# EAGLE library part PINHD-2X3-SMD (library custom-pinhead)
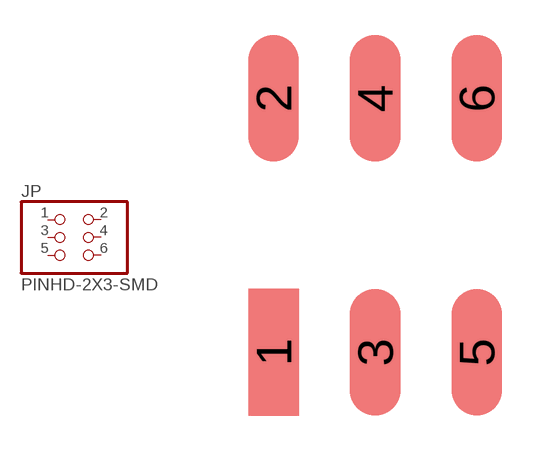
[diagram p44: symbol with the pads of 2X03-SMD; footprint 2X03-SMD]

Designator prefix JP

## PINHD-2X3-SMD  [2X03-SMD]
1  1  pas
2  2  pas
3  3  pas
4  4  pas
5  5  pas
6  6  pas

## Footprint 2X03-SMD (pad centres in mm)
smd 1.27 x 3.175: 1 -2.54,-3.175; 2 -2.54,3.175; 3 0,-3.175; 4 0,3.175; 5 2.54,-3.175; 6 2.54,3.175